# Altium schematic symbol library SCH - POWER - SWITCHMODE - TI TPS6735D.SchLib: 1 symbol
Pins are listed as number, name and electrical type; pins without a type are passive.

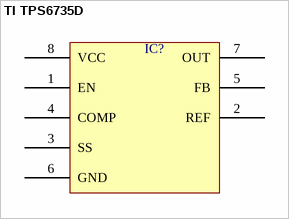
[diagram p0: symbol TI TPS6735D]

## TI TPS6735D
designator IC?  (value not drawn)
pins: 1 EN, 2 REF, 3 SS, 4 COMP, 5 FB, 6 GND, 7 OUT, 8 VCC